# Altium schematic symbol library SB160-E3_54.SchLib: 1 symbol
Pins are listed as number, name and electrical type; pins without a type are passive.

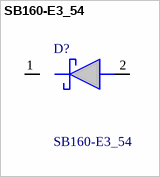
[diagram p0: symbol SB160-E3_54]

## SB160-E3_54
designator D?
Schottky Diodes & Rectifiers 60 Volt 1.0 Amp 50 Amp IFSM; Manufacturer_Name: Vishay; Manufacturer_Part_Number: SB160-E3/54; Mouser Part Number: 625-SB160-E3; Mouser Price/Stock: https://www.mouser.co.uk/ProductDetail/Vishay-General-Semiconductor/SB160-E3-54?qs=u91jd7aysvPQGAQKmVmbIA%3D%3D; Datasheet Link: https://componentsearchengine.com/Datasheets/2/SB160-E3_54.pdf
footprint DIOAD1405W86L465D235
pins: 1 K, 2 A